# Altium footprint library hearing_aid.PcbLib: 26 footprints (part 1 of 2)
Each footprint in its own frame and in the unit in brackets; x right, y up, seen from the top. Pads: shape width x height; smd on the part's side, far side on the other; paste and mask are expansions set on the pad; w line width, h text height; cw(c..) or ccw(c..) is an arc to the next point about the centre after c.
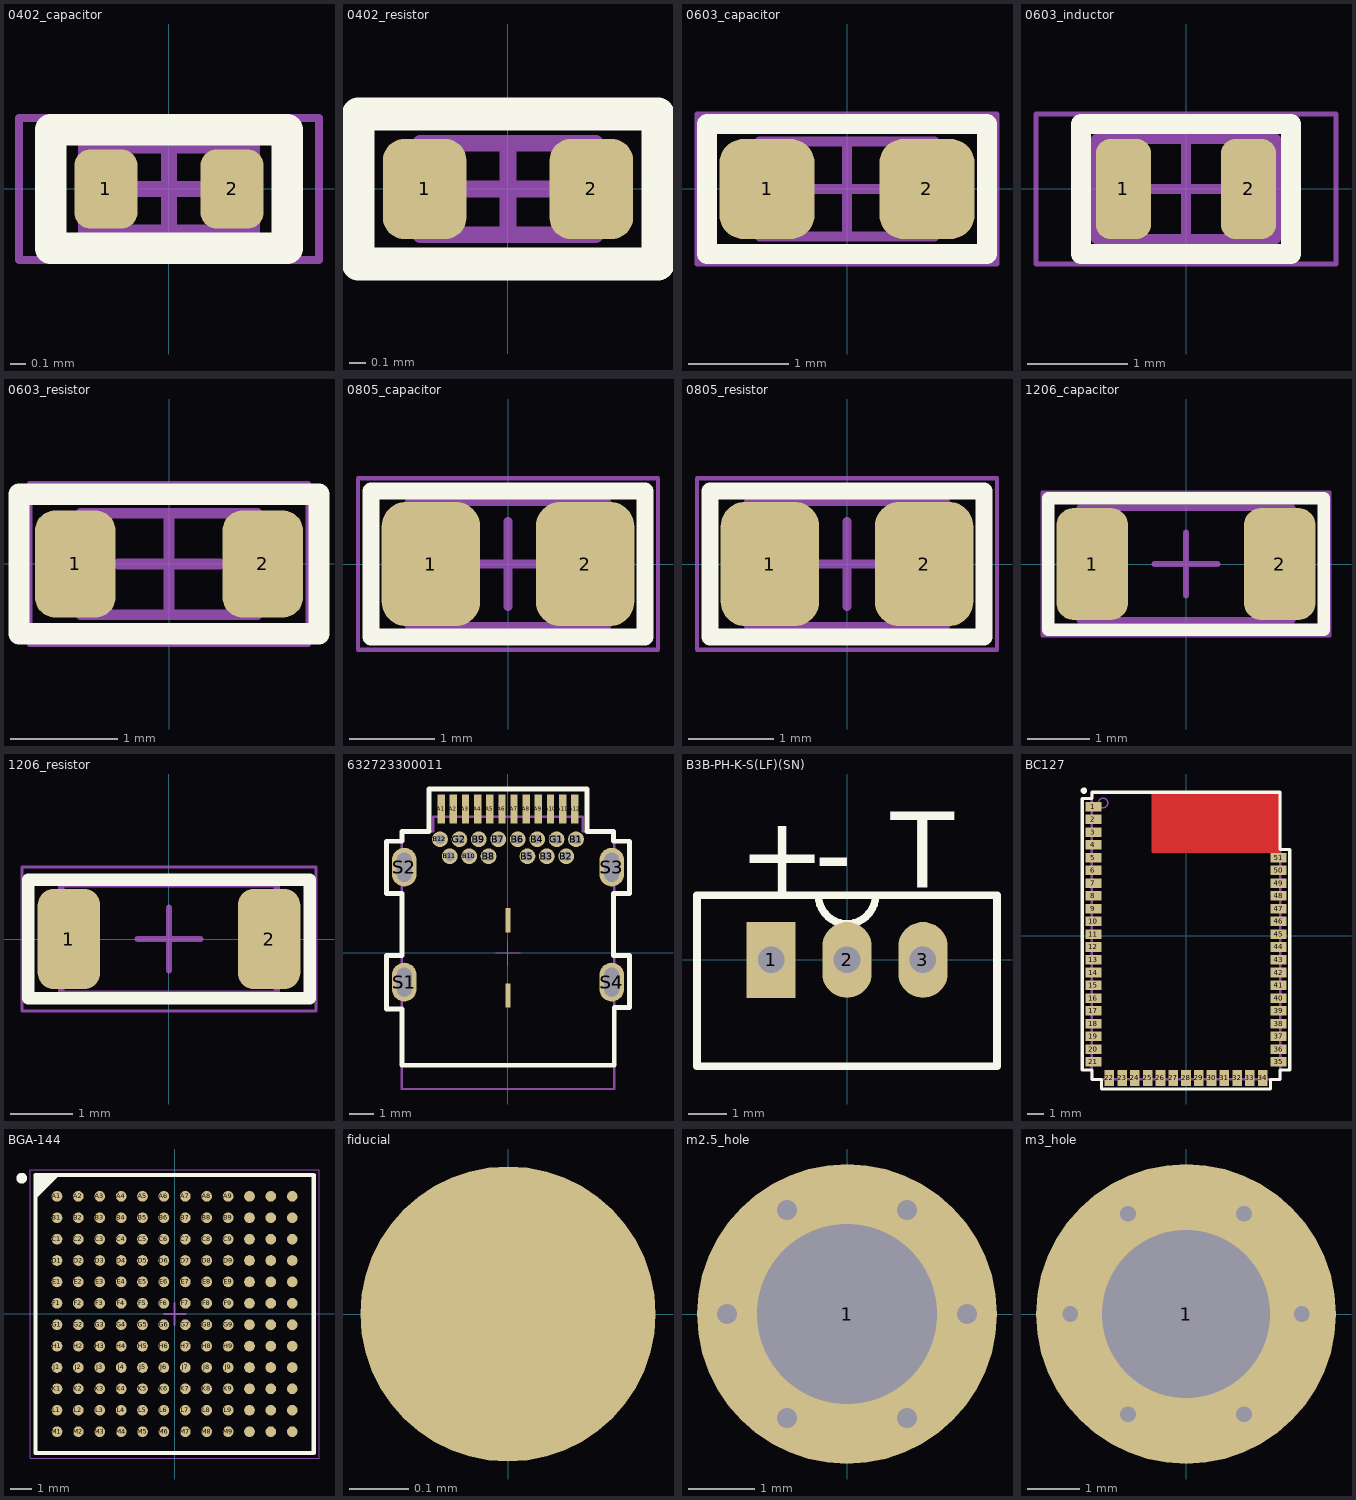
[diagram p0: the footprints below, top view; thin cyan lines are the x and y axes]

## 0402_capacitor [mm] "0402 chip capacitor"
height 0.55
pads (2):
  rrect50% 0.4x0.5 smd: 1(-0.4,0) 2(0.4,0)
Top Overlay:
  lines w0.2: -0.75,-0.375 -0.75,0.375 0.75,0.375 0.75,-0.375 -0.75,-0.375
Mechanical 13:
  lines w0.1: -0.525,-0.275 0.525,-0.275 0.525,0.275 -0.525,0.275 -0.525,-0.275
Mechanical 15:
  lines w0.05: -0.95,-0.45 0.95,-0.45 0.95,0.45 -0.95,0.45 -0.95,-0.45
  lines w0.1: -0.275,0 0.275,0 ; 0,-0.275 0,0.275
3D body "0402_capacitor.step": height 0.55, standoff 0, extent -0.525,-0.275 0.525,0.275

## 0402_resistor [mm] "Chip Resistor, 2-Leads, Body 1.00x0.50mm, IPC Medium Density"
height 0.4
pads (2):
  rrect50% 0.5x0.6 smd: 1(-0.5,0) 2(0.5,0)
Top Overlay:
  lines w0.2: -0.9,-0.45 0.9,-0.45 0.9,0.45 -0.9,0.45 -0.9,-0.45
Mechanical 13:
  lines w0.1: -0.525,-0.275 -0.525,0.275 0.525,0.275 0.525,-0.275 -0.525,-0.275
Mechanical 15:
  lines w0.05: -0.9,-0.45 -0.9,0.45 0.9,0.45 0.9,-0.45 -0.9,-0.45
  lines w0.1: -0.275,0 0.275,0 ; 0,-0.275 0,0.275
3D body "0402_resistor_fix.step": height 0.4, standoff 0, extent -0.525,-0.275 0.525,0.275

## 0603_capacitor [mm] "Chip Capacitor, 2-Leads, Body 1.60x0.80mm, IPC Medium Density"
height 0.87
pads (2):
  rrect50% 0.95x1 smd: 1(-0.8,0) 2(0.8,0)
Top Overlay:
  lines w0.2: -1.4,-0.65 -1.4,0.65 1.4,0.65 1.4,-0.65 -1.4,-0.65
Mechanical 13:
  lines w0.1: -0.875,-0.475 0.875,-0.475 0.875,0.475 -0.875,0.475 -0.875,-0.475
Mechanical 15:
  lines w0.05: -1.5,-0.75 1.5,-0.75 1.5,0.75 -1.5,0.75 -1.5,-0.75
  lines w0.1: -0.475,0 0.475,0 ; 0,-0.475 0,0.475
3D body "0603_capacitor.step": height 0.87, standoff 0, extent -0.875,-0.475 0.875,0.475

## 0603_inductor [mm] "Chip Inductor, 2-Leads, Body 1.60x0.80mm, IPC Medium Density"
height 1
pads (2):
  rrect50% 0.55x1 smd: 1(-0.625,0) 2(0.625,0)
Top Overlay:
  lines w0.2: -1.05,-0.65 -1.05,0.65 1.05,0.65 1.05,-0.65 -1.05,-0.65
Mechanical 13:
  lines w0.1: -0.9,-0.5 0.9,-0.5 0.9,0.5 -0.9,0.5 -0.9,-0.5
Mechanical 15:
  lines w0.05: -1.5,-0.75 1.5,-0.75 1.5,0.75 -1.5,0.75 -1.5,-0.75
  lines w0.1: -0.5,0 0.5,0 ; 0,-0.5 0,0.5
3D body "0603_inductor.step": height 1, standoff 0, extent -0.9,-0.5 0.9,0.5

## 0603_resistor [mm] "Chip Resistor, 2-Leads, Body 1.58x0.85mm, IPC Medium Density"
height 0.5
pads (2):
  rrect50% 0.75x1 smd: 1(-0.875,0) 2(0.875,0)
Top Overlay:
  lines w0.2: -1.4,-0.65 1.4,-0.65 1.4,0.65 -1.4,0.65 -1.4,-0.65
Mechanical 13:
  lines w0.1: -0.825,-0.475 -0.825,0.475 0.825,0.475 0.825,-0.475 -0.825,-0.475
Mechanical 15:
  lines w0.05: -1.3,-0.75 -1.3,0.75 1.3,0.75 1.3,-0.75 -1.3,-0.75
  lines w0.1: -0.475,0 0.475,0 ; 0,-0.475 0,0.475
3D body "0603_resistor.step": height 0.5, standoff 0, extent -0.825,-0.475 0.825,0.475

## 0805_capacitor [mm] "Chip Capacitor, 2-Leads, Body 2.00x1.25mm, IPC Medium Density"
height 0.95
pads (2):
  rrect50% 1.15x1.45 smd: 1(-0.9,0) 2(0.9,0)
Top Overlay:
  lines w0.2: -1.6,-0.85 -1.6,0.85 1.6,0.85 1.6,-0.85 -1.6,-0.85
Mechanical 13:
  lines w0.1: -1.15,-0.725 1.15,-0.725 1.15,0.725 -1.15,0.725 -1.15,-0.725
Mechanical 15:
  lines w0.05: -1.75,-1 1.75,-1 1.75,1 -1.75,1 -1.75,-1
  lines w0.1: -0.5,0 0.5,0 ; 0,-0.5 0,0.5
3D body "0805_capacitor.step": height 0.95, standoff 0, extent -1.15,-0.725 1.15,0.725

## 0805_resistor [mm] "Chip Resistor, 2-Leads, Body 2.00x1.25mm, IPC Medium Density"
height 0.95
pads (2):
  rrect50% 1.15x1.45 smd: 1(-0.9,0) 2(0.9,0)
Top Overlay:
  lines w0.2: -1.6,-0.85 1.6,-0.85 1.6,0.85 -1.6,0.85 -1.6,-0.85
Mechanical 13:
  lines w0.1: -1.15,-0.725 -1.15,0.725 1.15,0.725 1.15,-0.725 -1.15,-0.725
Mechanical 15:
  lines w0.05: -1.75,-1 -1.75,1 1.75,1 1.75,-1 -1.75,-1
  lines w0.1: -0.5,0 0.5,0 ; 0,-0.5 0,0.5
3D body "0805_capacitor.step": height 0.95, standoff 0, extent -1.15,-0.725 1.15,0.725

## 1206_capacitor [mm] "Chip Capacitor, 2-Leads, Body 3.20x1.60mm, IPC Medium Density"
height 1.6
pads (2):
  rrect50% 1.15x1.8 smd: 1(-1.5,0) 2(1.5,0)
Top Overlay:
  lines w0.2: -2.2,-1.05 2.2,-1.05 2.2,1.05 -2.2,1.05 -2.2,-1.05
Mechanical 13:
  lines w0.1: -1.7,-0.9 -1.7,0.9 1.7,0.9 1.7,-0.9 -1.7,-0.9
Mechanical 15:
  lines w0.05: -2.3,-1.15 -2.3,1.15 2.3,1.15 2.3,-1.15 -2.3,-1.15
  lines w0.1: -0.5,0 0.5,0 ; 0,-0.5 0,0.5
3D body "1206_capacitor.step": height 1.6, standoff 0, extent -1.7,-0.9 1.7,0.9

## 1206_resistor [mm] "Chip Resistor, 2-Leads, Body 3.20x1.60mm, IPC Medium Density"
height 0.7
pads (2):
  rrect50% 1x1.6 smd: 1(-1.6,0) 2(1.6,0)
Top Overlay:
  lines w0.2: -2.25,-0.95 -2.25,0.95 2.25,0.95 2.25,-0.95 -2.25,-0.95
Mechanical 13:
  lines w0.1: -1.725,-0.875 1.725,-0.875 1.725,0.875 -1.725,0.875 -1.725,-0.875
Mechanical 15:
  lines w0.05: -2.35,-1.15 2.35,-1.15 2.35,1.15 -2.35,1.15 -2.35,-1.15
  lines w0.1: -0.5,0 0.5,0 ; 0,-0.5 0,0.5
3D body "1206_resistor.step": height 0.7, standoff 0, extent -1.725,-0.875 1.725,0.875

## 632723300011 [mm] "USB 3.1 Type C Receptacle Horizontal THR"
height 2.96
pads (50):
  rect 0.3x1.2 smd: A1(-2.75,5.93) A2(-2.25,5.93) A3(-1.75,5.93) A4(-1.25,5.93) A5(-0.75,5.93) A6(-0.25,5.93) A7(0.25,5.93) A8(0.75,5.93) A9(1.25,5.93) A10(1.75,5.93) A11(2.25,5.93) A12(2.75,5.93)
  round 0.65 hole 0.4 paste+0: B1(2.8,4.68) B2(2.4,3.98) B3(1.6,3.98) B4(1.2,4.68) B5(0.8,3.98) B6(0.4,4.68) B7(-0.4,4.68) B8(-0.8,3.98) B9(-1.2,4.68) B10(-1.6,3.98) B11(-2.4,3.98) B12(-2.8,4.68) G1(2,4.68) G2(-2,4.68)
  round 0.65 smd paste+0: B1(2.8,4.68) B2(2.4,3.98) B3(1.6,3.98) B4(1.2,4.68) B5(0.8,3.98) B6(0.4,4.68) B7(-0.4,4.68) B8(-0.8,3.98) B9(-1.2,4.68) B10(-1.6,3.98) B11(-2.4,3.98) B12(-2.8,4.68) G1(2,4.68) G2(-2,4.68)
  oval 1x1.6 hole 0.6 slot 1.2 at 90 deg paste+0 mask+0.102: S1(-4.27,-1.2) S2(-4.27,3.53) S3(4.27,3.53) S4(4.27,-1.2)
  oval 1x1.6 smd paste+0 mask+0.102: S1(-4.27,-1.2) S2(-4.27,3.53) S3(4.27,3.53) S4(4.27,-1.2)
  rect 0.2x1 smd: S5(0,1.35) S6(0,-1.75)
Top Overlay:
  lines w0.2: -4.375,-4.625 4.375,-4.625 4.375,-2.25 5,-2.25 5,-0.1 4.34,-0.1 4.34,2.45 5,2.45 5,4.6 4.34,4.6 4.34,5 3.25,5 3.25,6.75 -3.25,6.75 -3.25,5 -4.37,5 -4.37,4.6 -5,4.6 -5,2.45 -4.37,2.45 -4.37,-0.1 -5,-0.1 -5,-2.3 -4.37,-2.3 -4.37,-4.625
Mechanical 2:
  lines w0.1: -4.37,-4.65 4.37,-4.65
  text "PCB Edge" at -1.7,-5.6 h0.61
Mechanical 13:
  lines w0.05: -2.85,5.6 -2.85,6.19 -2.65,6.19 -2.65,5.6 ; -2.35,5.6 -2.35,6.19 -2.15,6.19 -2.15,5.6 ; -1.85,5.6 -1.85,6.19 -1.65,6.19 -1.65,5.6 ; -1.35,5.6 -1.35,6.19 -1.15,6.19 -1.15,5.6 ; -0.85,5.6 -0.85,6.19 -0.65,6.19 -0.65,5.6 ; -0.35,5.6 -0.35,6.19 -0.15,6.19 -0.15,5.6 ; 0.15,5.6 0.15,6.19 0.35,6.19 0.35,5.6 ; 0.65,5.6 0.65,6.19 0.85,6.19 0.85,5.6 ; 1.15,5.6 1.15,6.19 1.35,6.19 1.35,5.6 ; 1.65,5.6 1.65,6.19 1.85,6.19 1.85,5.6 ; 2.15,5.6 2.15,6.19 2.35,6.19 2.35,5.6 ; 2.65,5.6 2.65,6.19 2.85,6.19 2.85,5.6
  lines w0.1: 4.34,-5.6 -4.37,-5.6 -4.37,5 -3.08,5 -3.08,5.6 3.08,5.6 3.08,5 4.37,5 4.37,-5.6
Mechanical 15:
  lines w0.05: -0.5,0 0.5,0 ; 0,-0.5 0,0.5
3D body "632723300011.stp": height 3.05, standoff -1.81, extent -4.37,-5.6 4.37,6.194

## B3B-PH-K-S(LF)(SN) [mm] "JST connector"
pads (3):
  rect 1.3x2 hole 0.7: 1(-2,0)
  oval 1.3x2 hole 0.7: 2(0,0) 3(2,0)
Top Overlay:
  lines w0.2: -0.752,1.7 ccw(c0,1.7) 0.752,1.7 ; -3.95,-2.8 3.95,-2.8 3.95,1.7 -3.95,1.7 -3.95,-2.8
  text "T" at 1.15,1.9 h2
  text "-" at -0.85,1.817 h2
  text "+" at -2.85,1.799 h2
Bottom Overlay:
  text "T" at 2.9,0.95 h2
  text "-" at 0.9,0.867 h2
  text "+" at -1.1,0.849 h2
3D body "b3b-ph-k-s(lf)(sn).step": height 6.01, standoff -3.39, extent -3.95,-2.8 3.95,1.7

## BC127 [mm] "LGA, 51-Leads, Body 18x11.8mm, Pitch 0.8mm"
height 2.4
pads (51):
  rect 1x0.6 smd paste+0 mask+0.05: 1(-5.8,8.1) 2(-5.8,7.3) 3(-5.8,6.5) 4(-5.8,5.7) 5(-5.8,4.9) 6(-5.8,4.1) 7(-5.8,3.3) 8(-5.8,2.5) 9(-5.8,1.7) 10(-5.8,0.9) 11(-5.8,0.1) 12(-5.8,-0.7) 13(-5.8,-1.5) 14(-5.8,-2.3) 15(-5.8,-3.1) 16(-5.8,-3.9) 17(-5.8,-4.7) 18(-5.8,-5.5) 19(-5.8,-6.3) 20(-5.8,-7.1) 21(-5.8,-7.9) 35(5.8,-7.9) 36(5.8,-7.1) 37(5.8,-6.3) 38(5.8,-5.5) 39(5.8,-4.7) 40(5.8,-3.9) 41(5.8,-3.1) 42(5.8,-2.3) 43(5.8,-1.5) 44(5.8,-0.7) 45(5.8,0.1) 46(5.8,0.9) 47(5.8,1.7) 48(5.8,2.5) 49(5.8,3.3) 50(5.8,4.1) 51(5.8,4.9)
  rect 0.6x1 smd paste+0 mask+0.05: 22(-4.8,-8.9) 23(-4,-8.9) 24(-3.2,-8.9) 25(-2.4,-8.9) 26(-1.6,-8.9) 27(-0.8,-8.9) 28(0,-8.9) 29(0.8,-8.9) 30(1.6,-8.9) 31(2.4,-8.9) 32(3.2,-8.9) 33(4,-8.9) 34(4.8,-8.9)
Top Layer:
  pour cut-out: -2.1,9 -2.1,5.2 5.9,5.2 5.9,9
Top Overlay:
  circle w0.2: c-6.4,9.1 r0.1
  lines w0.2: -6.5,-8.4 -5.9,-8.4 -5.9,-9 -5.3,-9 -5.3,-9.6 5.3,-9.6 5.3,-9 5.9,-9 5.9,-8.4 6.5,-8.4 6.5,5.4 5.9,5.4 5.9,9 -5.9,9 -5.9,8.6 -6.5,8.6 -6.5,-8.4
Mechanical 4:
  circle w0.1: c-5.2,8.325 r0.3
  lines w0.1: -2.1,9 -2.1,5.25 5.9,5.25
  lines w0.15: -5.9,-9 5.9,-9 5.9,9 -5.9,9 -5.9,-9
  text "GND Cut Out" at -1.1,6.5 h0.6
3D body "BC127v4x_3.step": height 2.1, standoff -1.2, extent -5.9,-9 5.9,9

## BGA-144 [mm] "BGA, 144-Leads, Body 13.00x13.00mmx1.70mm, Pitch 1.00mm"
height 1.7
pads (144):
  round 0.5 smd: A1(-5.5,5.5) A2(-4.5,5.5) A3(-3.5,5.5) A4(-2.5,5.5) A5(-1.5,5.5) A6(-0.5,5.5) A7(0.5,5.5) A8(1.5,5.5) A9(2.5,5.5) A10(3.5,5.5) A11(4.5,5.5) A12(5.5,5.5) B1(-5.5,4.5) B2(-4.5,4.5) B3(-3.5,4.5) B4(-2.5,4.5) B5(-1.5,4.5) B6(-0.5,4.5) B7(0.5,4.5) B8(1.5,4.5) B9(2.5,4.5) B10(3.5,4.5) B11(4.5,4.5) B12(5.5,4.5) C1(-5.5,3.5) C2(-4.5,3.5) C3(-3.5,3.5) C4(-2.5,3.5) C5(-1.5,3.5) C6(-0.5,3.5) C7(0.5,3.5) C8(1.5,3.5) C9(2.5,3.5) C10(3.5,3.5) C11(4.5,3.5) C12(5.5,3.5) D1(-5.5,2.5) D2(-4.5,2.5) D3(-3.5,2.5) D4(-2.5,2.5) D5(-1.5,2.5) D6(-0.5,2.5) D7(0.5,2.5) D8(1.5,2.5) D9(2.5,2.5) D10(3.5,2.5) D11(4.5,2.5) D12(5.5,2.5) E1(-5.5,1.5) E2(-4.5,1.5) E3(-3.5,1.5) E4(-2.5,1.5) E5(-1.5,1.5) E6(-0.5,1.5) E7(0.5,1.5) E8(1.5,1.5) E9(2.5,1.5) E10(3.5,1.5) E11(4.5,1.5) E12(5.5,1.5) F1(-5.5,0.5) F2(-4.5,0.5) F3(-3.5,0.5) F4(-2.5,0.5) F5(-1.5,0.5) F6(-0.5,0.5) F7(0.5,0.5) F8(1.5,0.5) F9(2.5,0.5) F10(3.5,0.5) F11(4.5,0.5) F12(5.5,0.5) G1(-5.5,-0.5) G2(-4.5,-0.5) G3(-3.5,-0.5) G4(-2.5,-0.5) G5(-1.5,-0.5) G6(-0.5,-0.5) G7(0.5,-0.5) G8(1.5,-0.5) G9(2.5,-0.5) G10(3.5,-0.5) G11(4.5,-0.5) G12(5.5,-0.5) H1(-5.5,-1.5) H2(-4.5,-1.5) H3(-3.5,-1.5) H4(-2.5,-1.5) H5(-1.5,-1.5) H6(-0.5,-1.5) H7(0.5,-1.5) H8(1.5,-1.5) H9(2.5,-1.5) H10(3.5,-1.5) H11(4.5,-1.5) H12(5.5,-1.5) J1(-5.5,-2.5) J2(-4.5,-2.5) J3(-3.5,-2.5) J4(-2.5,-2.5) J5(-1.5,-2.5) J6(-0.5,-2.5) J7(0.5,-2.5) J8(1.5,-2.5) J9(2.5,-2.5) J10(3.5,-2.5) J11(4.5,-2.5) J12(5.5,-2.5) K1(-5.5,-3.5) K2(-4.5,-3.5) K3(-3.5,-3.5) K4(-2.5,-3.5) K5(-1.5,-3.5) K6(-0.5,-3.5) K7(0.5,-3.5) K8(1.5,-3.5) K9(2.5,-3.5) K10(3.5,-3.5) K11(4.5,-3.5) K12(5.5,-3.5) L1(-5.5,-4.5) L2(-4.5,-4.5) L3(-3.5,-4.5) L4(-2.5,-4.5) L5(-1.5,-4.5) L6(-0.5,-4.5) L7(0.5,-4.5) L8(1.5,-4.5) L9(2.5,-4.5) L10(3.5,-4.5) L11(4.5,-4.5) L12(5.5,-4.5) M1(-5.5,-5.5) M2(-4.5,-5.5) M3(-3.5,-5.5) M4(-2.5,-5.5) M5(-1.5,-5.5) M6(-0.5,-5.5) M7(0.5,-5.5) M8(1.5,-5.5) M9(2.5,-5.5) M10(3.5,-5.5) M11(4.5,-5.5) M12(5.5,-5.5)
Top Overlay:
  circle w0.25: c-7.15,6.35 r0.125
  region: -5.5,6.5 -6.5,5.5 -6.5,6.5
  lines w0.2: -6.5,5.5 -5.5,6.5 ; -6.5,-6.5 6.5,-6.5 6.5,6.5 -6.5,6.5 -6.5,-6.5
Mechanical 13:
  lines w0.1: -6.5,-6.5 6.5,-6.5 6.5,6.5 -6.5,6.5 -6.5,-6.5
Mechanical 15:
  lines w0.05: -6.75,-6.75 6.75,-6.75 6.75,6.75 -6.75,6.75 -6.75,-6.75
  lines w0.1: -0.5,0 0.5,0 ; 0,-0.5 0,0.5
3D body "BGA-144.step": height 1.7, standoff 0, extent -6.5,-6.5 6.5,6.5

## fiducial [mm]
pads (1):
  round 0.5 smd paste-1 mask+0.5: ""(0,0)

## m2.5_hole [mm] "M2.5 hole, with via stitching"
pads (7):
  rect 0x0 hole 0.3: 1(-1.8,0) 1(1.8,0)
  rect 0x0 hole 0.3 rot 60: 1(-0.9,-1.559) 1(0.9,1.559)
  rect 0x0 hole 0.3 rot 120: 1(-0.9,1.559) 1(0.9,-1.559)
  round 4.5 hole 2.7 unplated mask+1.25: 1(0,0)

## m3_hole [mm] "M3 hole, with via stitching"
pads (7):
  rect 0x0 hole 0.3: 1(-2.2,0) 1(2.2,0)
  rect 0x0 hole 0.3 rot 60: 1(-1.1,-1.905) 1(1.1,1.905)
  rect 0x0 hole 0.3 rot 120: 1(-1.1,1.905) 1(1.1,-1.905)
  round 5.7 hole 3.2 unplated mask+1.25: 1(0,0)
3D body "m3x6mm_button_head.sldprt": height 1.65, standoff -6, extent -2.85,-2.847 2.85,2.847